# Altium footprint library Capacitor.PcbLib: 107 footprints (part 1 of 7)
Each footprint in its own frame and in the unit in brackets; x right, y up, seen from the top. Pads: shape width x height; smd on the part's side, far side on the other; paste and mask are expansions set on the pad; w line width, h text height; cw(c..) or ccw(c..) is an arc to the next point about the centre after c.
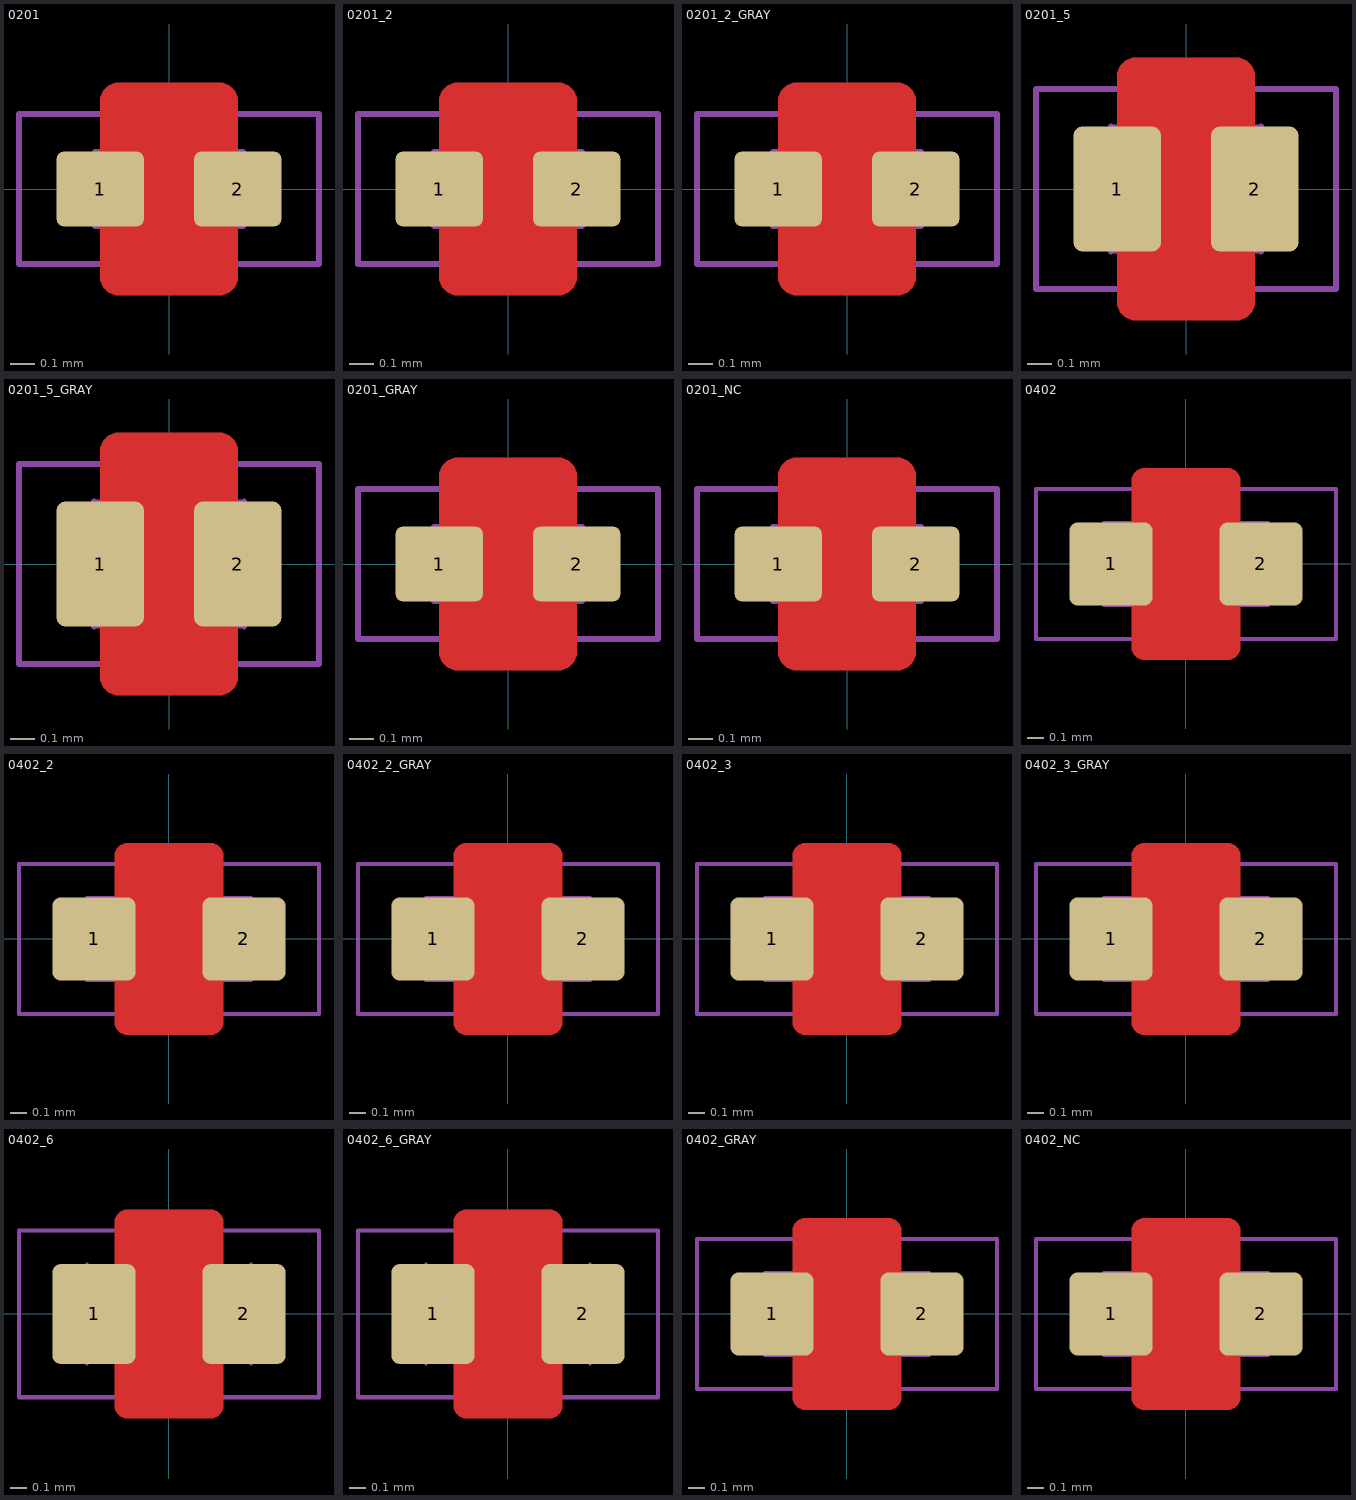
[diagram p0: the footprints below, top view; thin cyan lines are the x and y axes]

## 0201 [mil]
height 11.81
pads (2):
  rrect20% 14x12 smd mask+1.5: 1(-11,0) 2(11,0)
Top Layer:
  pour cut-out: -8,17 -8.6,17 -9.7,16.54 -10.54,15.7 -11,14.6 -11,14 -11,-14 -11,-14.6 -10.54,-15.7 -9.7,-16.54 -8.6,-17 -8,-17 8,-17 8.6,-17 9.7,-16.54 10.54,-15.7 11,-14.6 11,-14 11,14 11,14.6 10.54,15.7 9.7,16.54 8.6,17 8,17
Top Solder:
  rectangle: -6,-12.1 6,12.1
Top Component Outline:
  lines w1: -24,-12 24,-12 24,12 -24,12 -24,-12
Top 3D Body (Mech16):
  lines w1: -5.91,-5.91 -5.91,5.91 ; 5.91,-5.91 5.91,5.91 ; -11.81,-5.91 -11.81,5.91 11.81,5.91 11.81,-5.91 -11.81,-5.91
3D body: height 12, standoff 0, extent 6,-6 12,6
3D body: height 12, standoff 0, extent -12,-6 -6,6
3D body: height 11.8, standoff 0.2, extent -11.81,-5.91 11.81,5.91

## 0201_2 [mil]
height 7.87
pads (2):
  rrect20% 14x12 smd mask+1.5: 1(-11,0) 2(11,0)
Top Layer:
  pour cut-out: -8,17 -8.6,17 -9.7,16.54 -10.54,15.7 -11,14.6 -11,14 -11,-14 -11,-14.6 -10.54,-15.7 -9.7,-16.54 -8.6,-17 -8,-17 8,-17 8.6,-17 9.7,-16.54 10.54,-15.7 11,-14.6 11,-14 11,14 11,14.6 10.54,15.7 9.7,16.54 8.6,17 8,17
Top Solder:
  rectangle: -6,-12.1 6,12.1
Top Component Outline:
  lines w1: -24,-12 -24,12 24,12 24,-12 -24,-12
Top 3D Body (Mech16):
  lines w1: -5.91,-5.91 -5.91,5.91 ; 5.91,-5.91 5.91,5.91 ; -11.81,-5.91 11.81,-5.91 11.81,5.91 -11.81,5.91 -11.81,-5.91
3D body: height 7.7, standoff 0.2, extent -11.81,-5.91 11.81,5.91
3D body: height 7.87, standoff 0, extent -12,-6 -6,6
3D body: height 7.87, standoff 0, extent 6,-6 12,6

## 0201_2_GRAY [mil]
height 7.87
pads (2):
  rrect20% 14x12 smd mask+1.5: 1(-11,0) 2(11,0)
Top Layer:
  pour cut-out: -8,17 -8.6,17 -9.7,16.54 -10.54,15.7 -11,14.6 -11,14 -11,-14 -11,-14.6 -10.54,-15.7 -9.7,-16.54 -8.6,-17 -8,-17 8,-17 8.6,-17 9.7,-16.54 10.54,-15.7 11,-14.6 11,-14 11,14 11,14.6 10.54,15.7 9.7,16.54 8.6,17 8,17
Top Solder:
  rectangle: -6,-12.1 6,12.1
Top Component Outline:
  lines w1: -24,-12 24,-12 24,12 -24,12 -24,-12
Top 3D Body (Mech16):
  lines w1: -5.91,-5.91 -5.91,5.91 ; 5.91,-5.91 5.91,5.91 ; -11.81,-5.91 -11.81,5.91 11.81,5.91 11.81,-5.91 -11.81,-5.91
3D body: height 7.87, standoff 0, extent 6,-6 12,6
3D body: height 7.87, standoff 0, extent -12,-6 -6,6
3D body: height 7.7, standoff 0.2, extent -11.81,-5.91 11.81,5.91

## 0201_5 [mil]
height 19.68
pads (2):
  rrect20% 14x20 smd mask+1.5: 1(-11,0) 2(11,0)
Top Layer:
  pour cut-out: -8,21 -8.6,21 -9.7,20.54 -10.54,19.7 -11,18.6 -11,18 -11,-18 -11,-18.6 -10.54,-19.7 -9.7,-20.54 -8.6,-21 -8,-21 8,-21 8.6,-21 9.7,-20.54 10.54,-19.7 11,-18.6 11,-18 11,18 11,18.6 10.54,19.7 9.7,20.54 8.6,21 8,21
Top Solder:
  rectangle: -6,-16 6,16
Top Component Outline:
  lines w1: -24,-16 -24,16 24,16 24,-16 -24,-16
Top 3D Body (Mech16):
  lines w1: -12,-10 -12,10 ; -11.81,-9.84 11.81,-9.84 ; -11.81,9.84 11.81,9.84 ; -6,-10 -6,10 ; 6,-10 6,10 ; 12,-10 12,10
3D body: height 12, standoff 0, extent -12,-10 -6,10
3D body: height 11.8, standoff 0.2, extent -11.81,-9.84 11.81,9.84
3D body: height 12, standoff 0, extent 6,-10 12,10

## 0201_5_GRAY [mil]
height 19.68
pads (2):
  rrect20% 14x20 smd mask+1.5: 1(-11,0) 2(11,0)
Top Layer:
  pour cut-out: -8,21 -8.6,21 -9.7,20.54 -10.54,19.7 -11,18.6 -11,18 -11,-18 -11,-18.6 -10.54,-19.7 -9.7,-20.54 -8.6,-21 -8,-21 8,-21 8.6,-21 9.7,-20.54 10.54,-19.7 11,-18.6 11,-18 11,18 11,18.6 10.54,19.7 9.7,20.54 8.6,21 8,21
Top Solder:
  rectangle: -6,-16 6,16
Top Component Outline:
  lines w1: -24,-16 24,-16 24,16 -24,16 -24,-16
Top 3D Body (Mech16):
  lines w1: -12,-10 -12,10 ; -11.81,-9.84 11.81,-9.84 ; -11.81,9.84 11.81,9.84 ; -6,-10 -6,10 ; 6,-10 6,10 ; 12,-10 12,10
3D body: height 12, standoff 0, extent 6,-10 12,10
3D body: height 11.8, standoff 0.2, extent -11.81,-9.84 11.81,9.84
3D body: height 12, standoff 0, extent -12,-10 -6,10

## 0201_GRAY [mil]
height 11.81
pads (2):
  rrect20% 14x12 smd mask+1.5: 1(-11,0) 2(11,0)
Top Layer:
  pour cut-out: -8,17 -8.6,17 -9.7,16.54 -10.54,15.7 -11,14.6 -11,14 -11,-14 -11,-14.6 -10.54,-15.7 -9.7,-16.54 -8.6,-17 -8,-17 8,-17 8.6,-17 9.7,-16.54 10.54,-15.7 11,-14.6 11,-14 11,14 11,14.6 10.54,15.7 9.7,16.54 8.6,17 8,17
Top Solder:
  rectangle: -6,-12.1 6,12.1
Top Component Outline:
  lines w1: -24,-12 -24,12 24,12 24,-12 -24,-12
Top 3D Body (Mech16):
  lines w1: -5.91,-5.91 -5.91,5.91 ; 5.91,-5.91 5.91,5.91 ; -11.81,-5.91 11.81,-5.91 11.81,5.91 -11.81,5.91 -11.81,-5.91
3D body: height 11.8, standoff 0.2, extent -11.81,-5.91 11.81,5.91
3D body: height 12, standoff 0, extent -12,-6 -6,6
3D body: height 12, standoff 0, extent 6,-6 12,6

## 0201_NC [mil]
height 11.81
pads (2):
  rrect20% 14x12 smd mask+1.5: 1(-11,0) 2(11,0)
Top Layer:
  pour cut-out: -8,17 -8.6,17 -9.7,16.54 -10.54,15.7 -11,14.6 -11,14 -11,-14 -11,-14.6 -10.54,-15.7 -9.7,-16.54 -8.6,-17 -8,-17 8,-17 8.6,-17 9.7,-16.54 10.54,-15.7 11,-14.6 11,-14 11,14 11,14.6 10.54,15.7 9.7,16.54 8.6,17 8,17
Top Solder:
  rectangle: -6,-12.1 6,12.1
Top Component Outline:
  lines w1: -24,-12 24,-12 24,12 -24,12 -24,-12
Top 3D Body (Mech16):
  lines w1: -5.91,-5.91 -5.91,5.91 ; 5.91,-5.91 5.91,5.91 ; -11.81,-5.91 -11.81,5.91 11.81,5.91 11.81,-5.91 -11.81,-5.91
3D body: height 1, standoff 0, extent -11.81,-5.91 11.81,5.91

## 0402 [mil]
height 19.68
pads (2):
  rrect20% 20x20 smd mask+2: 1(-18,0) 2(18,0)
Top Layer:
  pour cut-out: 13,20 13,20.6 12.54,21.7 11.7,22.54 10.6,23 10,23 -10,23 -10.6,23 -11.7,22.54 -12.54,21.7 -13,20.6 -13,20 -13,-20 -13,-20.6 -12.54,-21.7 -11.7,-22.54 -10.6,-23 -10,-23 10,-23 10.6,-23 11.7,-22.54 12.54,-21.7 13,-20.6 13,-20
Top Solder:
  region: -8,18.1 -8,12 -17,12 -17,-12 -8,-12 -8,-18.1 8,-18.1 8,-12 17,-12 17,12 8,12 8,18.1
Top Component Outline:
  lines w1: -36,-18 36,-18 36,18 -36,18 -36,-18
Top 3D Body (Mech16):
  lines w1: -9.84,-9.84 -9.84,9.84 ; 9.84,-9.84 9.84,9.84 ; -19.68,-9.84 -19.68,9.84 19.68,9.84 19.68,-9.84 -19.68,-9.84
3D body: height 20, standoff 0, extent -20,-10 -10,10
3D body: height 20, standoff 0, extent 10,-10 20,10
3D body: height 19.8, standoff 0.2, extent -19.68,-9.84 19.68,9.84

## 0402_2 [mil]
height 8.66
pads (2):
  rrect20% 20x20 smd mask+2: 1(-18,0) 2(18,0)
Top Layer:
  pour cut-out: 13,20 13,20.6 12.54,21.7 11.7,22.54 10.6,23 10,23 -10,23 -10.6,23 -11.7,22.54 -12.54,21.7 -13,20.6 -13,20 -13,-20 -13,-20.6 -12.54,-21.7 -11.7,-22.54 -10.6,-23 -10,-23 10,-23 10.6,-23 11.7,-22.54 12.54,-21.7 13,-20.6 13,-20
Top Solder:
  region: -8,18.1 -8,12 -17,12 -17,-12 -8,-12 -8,-18.1 8,-18.1 8,-12 17,-12 17,12 8,12 8,18.1
Top Component Outline:
  lines w1: -36,-18 36,-18 36,18 -36,18 -36,-18
Top 3D Body (Mech16):
  lines w1: -9.84,-9.84 -9.84,9.84 ; 9.84,-9.84 9.84,9.84 ; -19.68,-9.84 -19.68,9.84 19.68,9.84 19.68,-9.84 -19.68,-9.84
3D body: height 8.66, standoff 0, extent -20,-10 -10,10
3D body: height 8.66, standoff 0, extent 10,-10 20,10
3D body: height 8.27, standoff 0.2, extent -19.68,-9.84 19.68,9.84

## 0402_2_GRAY [mil]
height 8.66
pads (2):
  rrect20% 20x20 smd mask+2: 1(-18,0) 2(18,0)
Top Layer:
  pour cut-out: 13,20 13,20.6 12.54,21.7 11.7,22.54 10.6,23 10,23 -10,23 -10.6,23 -11.7,22.54 -12.54,21.7 -13,20.6 -13,20 -13,-20 -13,-20.6 -12.54,-21.7 -11.7,-22.54 -10.6,-23 -10,-23 10,-23 10.6,-23 11.7,-22.54 12.54,-21.7 13,-20.6 13,-20
Top Solder:
  region: -8,18.1 -8,12 -17,12 -17,-12 -8,-12 -8,-18.1 8,-18.1 8,-12 17,-12 17,12 8,12 8,18.1
Top Component Outline:
  lines w1: -36,-18 36,-18 36,18 -36,18 -36,-18
Top 3D Body (Mech16):
  lines w1: -9.84,-9.84 -9.84,9.84 ; 9.84,-9.84 9.84,9.84 ; -19.68,-9.84 -19.68,9.84 19.68,9.84 19.68,-9.84 -19.68,-9.84
3D body: height 8.66, standoff 0, extent -20,-10 -10,10
3D body: height 8.66, standoff 0, extent 10,-10 20,10
3D body: height 8.27, standoff 0.2, extent -19.68,-9.84 19.68,9.84

## 0402_3 [mil]
height 12.99
pads (2):
  rrect20% 20x20 smd mask+2: 1(-18,0) 2(18,0)
Top Layer:
  pour cut-out: 13,20 13,20.6 12.54,21.7 11.7,22.54 10.6,23 10,23 -10,23 -10.6,23 -11.7,22.54 -12.54,21.7 -13,20.6 -13,20 -13,-20 -13,-20.6 -12.54,-21.7 -11.7,-22.54 -10.6,-23 -10,-23 10,-23 10.6,-23 11.7,-22.54 12.54,-21.7 13,-20.6 13,-20
Top Solder:
  region: -8,18.1 -8,12 -17,12 -17,-12 -8,-12 -8,-18.1 8,-18.1 8,-12 17,-12 17,12 8,12 8,18.1
Top Component Outline:
  lines w1: -36,-18 -36,18 36,18 36,-18 -36,-18
Top 3D Body (Mech16):
  lines w1: -9.84,-9.84 -9.84,9.84 ; 9.84,-9.84 9.84,9.84 ; -19.68,-9.84 19.68,-9.84 19.68,9.84 -19.68,9.84 -19.68,-9.84
3D body: height 12.6, standoff 0.2, extent -19.68,-9.84 19.68,9.84
3D body: height 12.99, standoff 0, extent 10,-10 20,10
3D body: height 12.99, standoff 0, extent -20,-10 -10,10

## 0402_3_GRAY [mil]
height 12.99
pads (2):
  rrect20% 20x20 smd mask+2: 1(-18,0) 2(18,0)
Top Layer:
  pour cut-out: 13,20 13,20.6 12.54,21.7 11.7,22.54 10.6,23 10,23 -10,23 -10.6,23 -11.7,22.54 -12.54,21.7 -13,20.6 -13,20 -13,-20 -13,-20.6 -12.54,-21.7 -11.7,-22.54 -10.6,-23 -10,-23 10,-23 10.6,-23 11.7,-22.54 12.54,-21.7 13,-20.6 13,-20
Top Solder:
  region: -8,18.1 -8,12 -17,12 -17,-12 -8,-12 -8,-18.1 8,-18.1 8,-12 17,-12 17,12 8,12 8,18.1
Top Component Outline:
  lines w1: -36,-18 -36,18 36,18 36,-18 -36,-18
Top 3D Body (Mech16):
  lines w1: -9.84,-9.84 -9.84,9.84 ; 9.84,-9.84 9.84,9.84 ; -19.68,-9.84 19.68,-9.84 19.68,9.84 -19.68,9.84 -19.68,-9.84
3D body: height 12.6, standoff 0.2, extent -19.68,-9.84 19.68,9.84
3D body: height 12.99, standoff 0, extent 10,-10 20,10
3D body: height 12.99, standoff 0, extent -20,-10 -10,10

## 0402_6 [mil]
height 23.62
pads (2):
  rrect20% 20x24 smd mask+2: 1(-18,0) 2(18,0)
Top Layer:
  pour cut-out: 13,22 13,22.6 12.54,23.7 11.7,24.54 10.6,25 10,25 -10,25 -10.6,25 -11.7,24.54 -12.54,23.7 -13,22.6 -13,22 -13,-22 -13,-22.6 -12.54,-23.7 -11.7,-24.54 -10.6,-25 -10,-25 10,-25 10.6,-25 11.7,-24.54 12.54,-23.7 13,-22.6 13,-22
Top Solder:
  region: -8,20.1 -8,14 -17,14 -17,-14 -8,-14 -8,-20 8,-20 8,-14 17,-14 17,14 8,14 8,20.1
Top Component Outline:
  lines w1: -36,-20 -36,20 36,20 36,-20 -36,-20
Top 3D Body (Mech16):
  lines w1: -19.68,-11.81 -19.68,11.81 ; -19.5,-11.5 19.5,-11.5 ; -19.5,11.5 19.5,11.5 ; -9.84,-11.81 -9.84,11.81 ; 9.84,-11.81 9.84,11.81 ; 19.68,-11.81 19.68,11.81
3D body: height 20, standoff 0, extent -19.68,-11.81 -9.84,11.81
3D body: height 19.8, standoff 0.2, extent -19.5,-11.5 19.5,11.5
3D body: height 20, standoff 0, extent 9.84,-11.81 19.68,11.81

## 0402_6_GRAY [mil]
height 23.62
pads (2):
  rrect20% 20x24 smd mask+2: 1(-18,0) 2(18,0)
Top Layer:
  pour cut-out: 13,22 13,22.6 12.54,23.7 11.7,24.54 10.6,25 10,25 -10,25 -10.6,25 -11.7,24.54 -12.54,23.7 -13,22.6 -13,22 -13,-22 -13,-22.6 -12.54,-23.7 -11.7,-24.54 -10.6,-25 -10,-25 10,-25 10.6,-25 11.7,-24.54 12.54,-23.7 13,-22.6 13,-22
Top Solder:
  region: -8,20.1 -8,14 -17,14 -17,-14 -8,-14 -8,-20 8,-20 8,-14 17,-14 17,14 8,14 8,20.1
Top Component Outline:
  lines w1: -36,-20 -36,20 36,20 36,-20 -36,-20
Top 3D Body (Mech16):
  lines w1: -19.68,-11.81 -19.68,11.81 ; -19.5,-11.5 19.5,-11.5 ; -19.5,11.5 19.5,11.5 ; -9.84,-11.81 -9.84,11.81 ; 9.84,-11.81 9.84,11.81 ; 19.68,-11.81 19.68,11.81
3D body: height 20, standoff 0, extent -19.68,-11.81 -9.84,11.81
3D body: height 19.8, standoff 0.2, extent -19.5,-11.5 19.5,11.5
3D body: height 20, standoff 0, extent 9.84,-11.81 19.68,11.81

## 0402_GRAY [mil]
pads (2):
  rrect20% 20x20 smd mask+2: 1(-18,0) 2(18,0)
Top Layer:
  pour cut-out: 13,20 13,20.6 12.54,21.7 11.7,22.54 10.6,23 10,23 -10,23 -10.6,23 -11.7,22.54 -12.54,21.7 -13,20.6 -13,20 -13,-20 -13,-20.6 -12.54,-21.7 -11.7,-22.54 -10.6,-23 -10,-23 10,-23 10.6,-23 11.7,-22.54 12.54,-21.7 13,-20.6 13,-20
Top Solder:
  region: -8,18.1 -8,12 -17,12 -17,-12 -8,-12 -8,-18.1 8,-18.1 8,-12 17,-12 17,12 8,12 8,18.1
Top Component Outline:
  lines w1: -36,-18 -36,18 36,18 36,-18 -36,-18
Top 3D Body (Mech16):
  lines w1: -9.84,-9.84 -9.84,9.84 ; 9.84,-9.84 9.84,9.84 ; -19.68,-9.84 19.68,-9.84 19.68,9.84 -19.68,9.84 -19.68,-9.84
3D body: height 19.8, standoff 0.2, extent -19.68,-9.84 19.68,9.84
3D body: height 20, standoff 0, extent 10,-10 20,10
3D body: height 20, standoff 0, extent -20,-10 -10,10

## 0402_NC [mil]
height 19.68
pads (2):
  rrect20% 20x20 smd mask+2: 1(-18,0) 2(18,0)
Top Layer:
  pour cut-out: 13,20 13,20.6 12.54,21.7 11.7,22.54 10.6,23 10,23 -10,23 -10.6,23 -11.7,22.54 -12.54,21.7 -13,20.6 -13,20 -13,-20 -13,-20.6 -12.54,-21.7 -11.7,-22.54 -10.6,-23 -10,-23 10,-23 10.6,-23 11.7,-22.54 12.54,-21.7 13,-20.6 13,-20
Top Solder:
  region: -8,18.1 -8,12 -17,12 -17,-12 -8,-12 -8,-18.1 8,-18.1 8,-12 17,-12 17,12 8,12 8,18.1
Top Component Outline:
  lines w1: -36,-18 -36,18 36,18 36,-18 -36,-18
Top 3D Body (Mech16):
  lines w1: -9.84,-9.84 -9.84,9.84 ; 9.84,-9.84 9.84,9.84 ; -19.68,-9.84 19.68,-9.84 19.68,9.84 -19.68,9.84 -19.68,-9.84
3D body: height 1, standoff 0, extent -19.68,-9.84 19.68,9.84